# Altium footprint library TB00250002BE.PcbLib: 1 footprints
Each footprint in its own frame and in the unit in brackets; x right, y up, seen from the top. Pads: shape width x height; smd on the part's side, far side on the other; paste and mask are expansions set on the pad; w line width, h text height; cw(c..) or ccw(c..) is an arc to the next point about the centre after c.
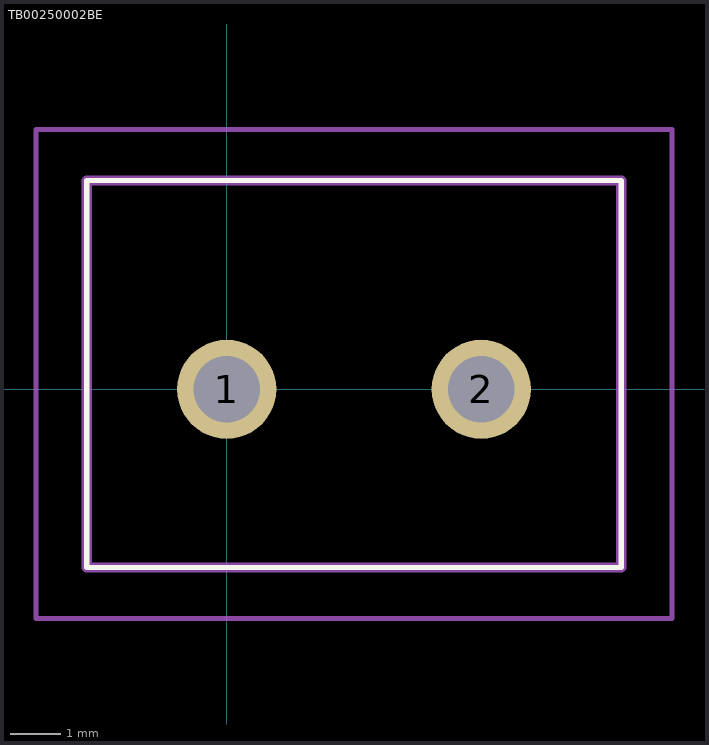
[diagram p0: the footprint, top view; thin cyan lines are the x and y axes]

## TB00250002BE [mm]
pads (2):
  round 1.95 hole 1.3: 1(0,0) 2(5,0)
Top Overlay:
  lines w0.1: -2.75,-3.5 7.75,-3.5 7.75,4.1 -2.75,4.1 -2.75,-3.5
Mechanical 15:
  lines w0.2: -2.75,-3.5 7.75,-3.5 7.75,4.1 -2.75,4.1 -2.75,-3.5
Mechanical 20:
  lines w0.1: -3.75,-4.5 8.75,-4.5 8.75,5.1 -3.75,5.1 -3.75,-4.5